# Altium integrated library ST Operational Amplifier.IntLib: 566 symbols (part 1 of 11)
Pins are listed as number, name and electrical type; pins without a type are passive.

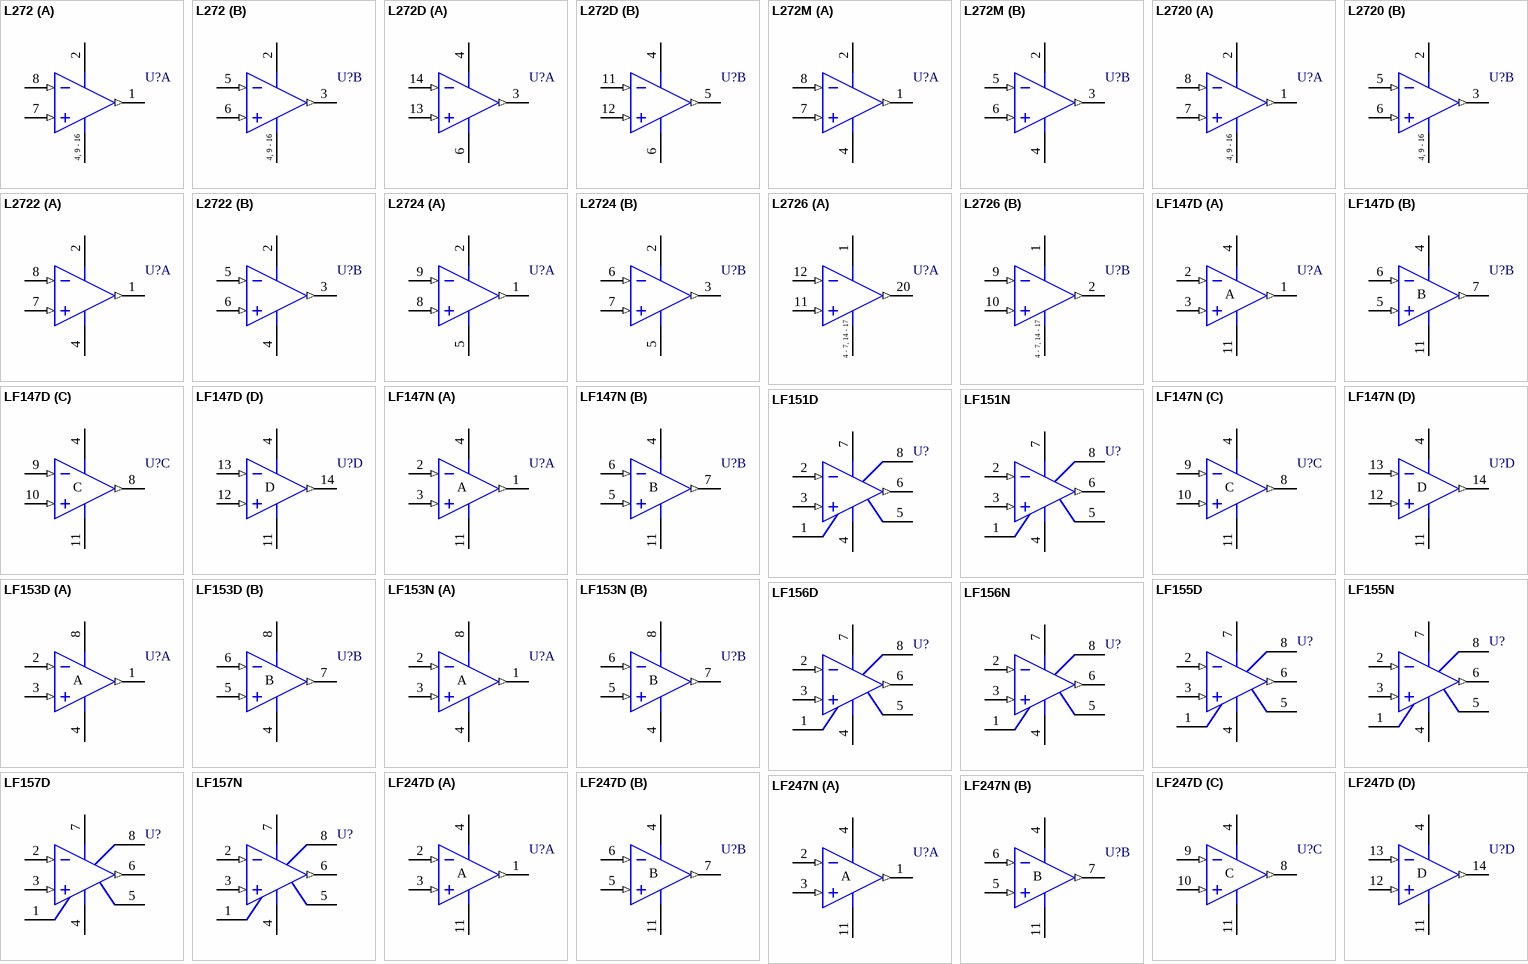
[diagram p0: symbols L272 to LF247N]

## L272
designator U?
Dual Power Operational Amplifier; Published: 24-Aug-2001; LatestRevisionDate: 06-Jun-2005; LatestRevisionNote: Stylized 3D Model Added.; DatasheetVersion: Jan-1995; PackageVersion: Apr-1996; PackageReference: DIP16; Publisher: Altium Limited; PackageDescription: DIP; 16 Leads; Row Spacing 7.62 mm; Pitch 2.54 mm; ComponentLink1Description: Manufacturer Link; ComponentLink1URL: http://www.st.com/; ComponentLink2Description: Datasheet; ComponentLink2URL: http://www.st.com/stonline/products/literature/ds/1320/l272.pdf
footprint DIP16 (DIP; 16 Leads; Row Spacing 7.62 mm; Pitch 2.54 mm)
3D model DIP16 (DIP; 16 Leads; Row Spacing 7.62 mm; Pitch 2.54 mm)
pins on every part: 2 V+ (power), 4 V- (power), 9 V- (power), 10 V- (power), 11 V- (power), 12 V- (power), 13 V- (power), 14 V- (power), 15 V- (power), 16 V- (power)
part A pins: 1 OUT (out), 7 IN+ (in), 8 IN- (in)
part B pins: 3 OUT (out), 5 IN- (in), 6 IN+ (in)
part A text: 4, 9 - 16
part B text: 4, 9 - 16

## L272D
designator U?
Dual Power Operational Amplifier; Note: Pins 1, 2, 7, 8, 9, 10, 15 and 16 are NC and not drawn.; Published: 24-Aug-2001; LatestRevisionDate: 13-Apr-2006; LatestRevisionNote: IPC-7351 Footprint Added.; DatasheetVersion: Jan-1995; PackageVersion: May-1998; PackageReference: SO16; Publisher: Altium Limited; PackageDescription: 16-Pin Small Outline Integrated Circuit 1.27 mm Pitch; Code_IPC: SOIC127P600-16; ComponentLink1Description: Manufacturer Link; ComponentLink1URL: http://www.st.com/; ComponentLink2Description: Datasheet; ComponentLink2URL: http://www.st.com/stonline/products/literature/ds/1320/l272.pdf
footprint SO16_N (SOIC, 16-Leads, Body 9.9x3.9mm, Pitch 1.27mm, IPC Medium Density)
footprint SO16_L (SOIC, 16-Leads, Body 9.9x3.9mm, Pitch 1.27mm, IPC High Density)
footprint SO16_M (SOIC, 16-Leads, Body 9.9x3.9mm, Pitch 1.27mm, IPC Low Density)
3D model SO16 (16-Pin Small Outline Integrated Circuit 1.27 mm Pitch)
pins on every part: 4 V+ (power), 6 V- (power)
part A pins: 3 OUT (out), 13 IN+ (in), 14 IN- (in)
part B pins: 5 OUT (out), 11 IN- (in), 12 IN+ (in)

## L272M
designator U?
Dual Power Operational Amplifier; Published: 24-Aug-2001; LatestRevisionDate: 06-Jun-2005; LatestRevisionNote: Stylized 3D Model Added.; DatasheetVersion: Jan-1995; PackageReference: DIP8; Publisher: Altium Limited; PackageDescription: DIP; 8 Leads; Row Spacing 7.62 mm; Pitch 2.54 mm; Code_JEDEC: MO-001-AN; ComponentLink1Description: Manufacturer Link; ComponentLink1URL: http://www.st.com/; ComponentLink2Description: Datasheet; ComponentLink2URL: http://www.st.com/stonline/products/literature/ds/1320/l272.pdf
footprint DIP8 (DIP; 8 Leads; Row Spacing 7.62 mm; Pitch 2.54 mm)
3D model DIP8 (DIP; 8 Leads; Row Spacing 7.62 mm; Pitch 2.54 mm)
pins on every part: 2 V+ (power), 4 V- (power)
part A pins: 1 OUT (out), 7 IN+ (in), 8 IN- (in)
part B pins: 3 OUT (out), 5 IN- (in), 6 IN+ (in)

## L2720
designator U?
Low-Drop Dual Power Operational Amplifier; Published: 24-Aug-2001; LatestRevisionDate: 06-Jun-2005; LatestRevisionNote: Stylized 3D Model Added.; DatasheetVersion: Nov-1996; PackageVersion: Apr-1996; PackageReference: DIP16; Publisher: Altium Limited; PackageDescription: DIP; 16 Leads; Row Spacing 7.62 mm; Pitch 2.54 mm; ComponentLink1Description: Manufacturer Link; ComponentLink1URL: http://www.st.com/; ComponentLink2Description: Datasheet; ComponentLink2URL: http://www.st.com/stonline/products/literature/ds/1321/l2720.pdf
footprint DIP16 (DIP; 16 Leads; Row Spacing 7.62 mm; Pitch 2.54 mm)
3D model DIP16 (DIP; 16 Leads; Row Spacing 7.62 mm; Pitch 2.54 mm)
pins on every part: 2 V+ (power), 4 V- (power), 9 V- (power), 10 V- (power), 11 V- (power), 12 V- (power), 13 V- (power), 14 V- (power), 15 V- (power), 16 V- (power)
part A pins: 1 OUT (out), 7 IN+ (in), 8 IN- (in)
part B pins: 3 OUT (out), 5 IN- (in), 6 IN+ (in)
part A text: 4, 9 - 16
part B text: 4, 9 - 16

## L2722
designator U?
Low-Drop Dual Power Operational Amplifier; Published: 24-Aug-2001; LatestRevisionDate: 17-Jul-2002; LatestRevisionNote: Re-released for DXP Platform.; DatasheetVersion: Nov-1996; PackageVersion: Sep-1988; PackageReference: MDIP8; Publisher: Altium Limited; PackageDescription: DIP; 8 Leads; Row Spacing 7.62 mm; Pitch 2.54 mm; ComponentLink1Description: Manufacturer Link; ComponentLink1URL: http://www.st.com/; ComponentLink2Description: Datasheet; ComponentLink2URL: http://www.st.com/stonline/products/literature/ds/1321/l2720.pdf
footprint MDIP8 (DIP; 8 Leads; Row Spacing 7.62 mm; Pitch 2.54 mm)
pins on every part: 2 V+ (power), 4 V- (power)
part A pins: 1 OUT (out), 7 IN+ (in), 8 IN- (in)
part B pins: 3 OUT (out), 5 IN- (in), 6 IN+ (in)

## L2724
designator U?
Low-Drop Dual Power Operational Amplifier; Note: Pin number 4 is NC and not drawn.; Published: 24-Aug-2001; LatestRevisionDate: 17-Jul-2002; LatestRevisionNote: Re-released for DXP Platform.; DatasheetVersion: Nov-1996; PackageVersion: Oct-1997; PackageReference: SIP9; Publisher: Altium Limited; PackageDescription: TO, Thru-Hole, Vertical, Heatsink Mounted; 9 In-Line Leads; Pitch 2.54 mm; ComponentLink1Description: Manufacturer Link; ComponentLink1URL: http://www.st.com/; ComponentLink2Description: Datasheet; ComponentLink2URL: http://www.st.com/stonline/products/literature/ds/1321/l2720.pdf
footprint SIP9 (TO, Thru-Hole, Vertical, Heatsink Mounted; 9 In-Line Leads; Pitch 2.54 mm)
pins on every part: 2 V+ (power), 5 V- (power)
part A pins: 1 OUT (out), 8 IN+ (in), 9 IN- (in)
part B pins: 3 OUT (out), 6 IN- (in), 7 IN+ (in)

## L2726
designator U?
Low-Drop Dual Power Operational Amplifier; Note: Pins 3, 8, 13, 18  and 19 are NC and are not drawn.; Published: 24-Aug-2001; LatestRevisionDate: 13-Apr-2006; LatestRevisionNote: IPC-7351 Footprint Added.; DatasheetVersion: Oct-1998; PackageVersion: Jul-2001; PackageReference: SO20; Publisher: Altium Limited; PackageDescription: 20-Pin Plastic Small Outline Integrated Circuit 1.27 mm Pitch; Code_JEDEC: MS-013-AC; Code_IPC: SOIC127P1030-20; ComponentLink1Description: Manufacturer Link; ComponentLink1URL: http://www.st.com/; ComponentLink2Description: Datasheet; ComponentLink2URL: http://www.st.com/stonline/products/literature/ds/1322/l2726.pdf
footprint SO20_N (SOIC, 20-Leads, Body 12.8x7.5mm, Pitch 1.27mm, IPC Medium Density)
footprint SO20_L (SOIC, 20-Leads, Body 12.8x7.5mm, Pitch 1.27mm, IPC High Density)
footprint SO20_M (SOIC, 20-Leads, Body 12.8x7.5mm, Pitch 1.27mm, IPC Low Density)
3D model SO20 (20-Pin Plastic Small Outline Integrated Circuit 1.27 mm Pitch)
pins on every part: 1 V+ (power), 4 V- (power), 5 V- (power), 6 V- (power), 7 V- (power), 14 V- (power), 15 V- (power), 16 V- (power), 17 V- (power)
part A pins: 11 IN+ (in), 12 IN- (in), 20 OUT (out)
part B pins: 2 OUT (out), 9 IN- (in), 10 IN+ (in)
part A text: 4 - 7, 14 - 17
part B text: 4 - 7, 14 - 17

## LF147D
designator U?
Wide-Bandwidth Quad J-FET Operational Amplifier; Published: 24-Aug-2001; LatestRevisionDate: 13-Apr-2006; LatestRevisionNote: IPC-7351 Footprint Added.; DatasheetVersion: Oct-1997; PackageVersion: Sep-1998; PackageReference: SO14; Publisher: Altium Limited; PackageDescription: 14-Pin Small Outline Integrated Circuit 1.27 mm Pitch; Code_IPC: SOIC127P600-14; ComponentLink1Description: Manufacturer Link; ComponentLink1URL: http://www.st.com/; ComponentLink2Description: Datasheet; ComponentLink2URL: http://www.st.com/stonline/products/literature/ds/2151/lf347.pdf
footprint SO14_N (SOIC, 14-Leads, Body 8.7x3.9mm, Pitch 1.27mm, IPC Medium Density)
footprint SO14_L (SOIC, 14-Leads, Body 8.7x3.9mm, Pitch 1.27mm, IPC High Density)
footprint SO14_M (SOIC, 14-Leads, Body 8.7x3.9mm, Pitch 1.27mm, IPC Low Density)
3D model SO14 (14-Pin Small Outline Integrated Circuit 1.27 mm Pitch)
pins on every part: 4 V+ (power), 11 V- (power)
part A pins: 1 OUT (out), 2 IN- (in), 3 IN+ (in)
part B pins: 5 IN+ (in), 6 IN- (in), 7 OUT (out)
part C pins: 8 OUT (out), 9 IN- (in), 10 IN+ (in)
part D pins: 12 IN+ (in), 13 IN- (in), 14 OUT (out)
part A text: A
part B text: B
part C text: C
part D text: D

## LF147N
designator U?
Wide-Bandwidth Quad J-FET Operational Amplifier; Published: 24-Aug-2001; LatestRevisionDate: 06-Jun-2005; LatestRevisionNote: Stylized 3D Model Added.; DatasheetVersion: Oct-1997; PackageVersion: Jan-1997; PackageReference: DIP14; Publisher: Altium Limited; PackageDescription: DIP; 14 Leads; Row Spacing 7.62 mm; Pitch 2.54 mm; ComponentLink1Description: Manufacturer Link; ComponentLink1URL: http://www.st.com/; ComponentLink2Description: Datasheet; ComponentLink2URL: http://www.st.com/stonline/products/literature/ds/2151/lf347.pdf
footprint DIP14 (DIP; 14 Leads; Row Spacing 7.62 mm; Pitch 2.54 mm)
3D model DIP14 (DIP; 14 Leads; Row Spacing 7.62 mm; Pitch 2.54 mm)
pins on every part: 4 V+ (power), 11 V- (power)
part A pins: 1 OUT (out), 2 IN- (in), 3 IN+ (in)
part B pins: 5 IN+ (in), 6 IN- (in), 7 OUT (out)
part C pins: 8 OUT (out), 9 IN- (in), 10 IN+ (in)
part D pins: 12 IN+ (in), 13 IN- (in), 14 OUT (out)
part A text: A
part B text: B
part C text: C
part D text: D

## LF151D
designator U?
Wide-Bandwidth Single J-FET Operational Amplifier; Published: 24-Aug-2001; LatestRevisionDate: 13-Apr-2006; LatestRevisionNote: IPC-7351 Footprint Added.; DatasheetVersion: Oct-1997; PackageVersion: Dec-2002; PackageReference: SO8; Publisher: Altium Limited; PackageDescription: 8-Pin Small Outline Integrated Circuit 1.27 mm Pitch; Code_JEDEC: MS-012-AA; Code_IPC: SOIC127P600-8; ComponentLink1Description: Manufacturer Link; ComponentLink1URL: http://www.st.com/; ComponentLink2Description: Datasheet; ComponentLink2URL: http://www.st.com/stonline/products/literature/ds/2152/lf351.pdf
footprint SO8_N (SOIC, 8-Leads, Body 4.9x3.9mm, Pitch 1.27mm, IPC Medium Density)
footprint SO8_L (SOIC, 8-Leads, Body 4.9x3.9mm, Pitch 1.27mm, IPC High Density)
footprint SO8_M (SOIC, 8-Leads, Body 4.9x3.9mm, Pitch 1.27mm, IPC Low Density)
3D model SO8 (8-Pin Small Outline Integrated Circuit 1.27 mm Pitch)
pins: 1 OS NULL, 2 IN- (in), 3 IN+ (in), 4 V- (power), 5 OS NULL, 6 OUT (out), 7 V+ (power), 8 NC

## LF151N
designator U?
Wide-Bandwidth Single J-FET Operational Amplifier; Published: 24-Aug-2001; LatestRevisionDate: 06-Jun-2005; LatestRevisionNote: Stylized 3D Model Added.; DatasheetVersion: Oct-1997; PackageReference: DIP8; Publisher: Altium Limited; PackageDescription: DIP; 8 Leads; Row Spacing 7.62 mm; Pitch 2.54 mm; Code_JEDEC: MO-001-AN; ComponentLink1Description: Manufacturer Link; ComponentLink1URL: http://www.st.com/; ComponentLink2Description: Datasheet; ComponentLink2URL: http://www.st.com/stonline/products/literature/ds/2152/lf351.pdf
footprint DIP8 (DIP; 8 Leads; Row Spacing 7.62 mm; Pitch 2.54 mm)
3D model DIP8 (DIP; 8 Leads; Row Spacing 7.62 mm; Pitch 2.54 mm)
pins: 1 OS NULL, 2 IN- (in), 3 IN+ (in), 4 V- (power), 5 OS NULL, 6 OUT (out), 7 V+ (power), 8 NC

## LF153D
designator U?
Wide-Bandwidth Dual J-FET Operational Amplifier; Published: 24-Aug-2001; LatestRevisionDate: 13-Apr-2006; LatestRevisionNote: IPC-7351 Footprint Added.; DatasheetVersion: Jun-1998; PackageVersion: Dec-2002; PackageReference: SO8; Publisher: Altium Limited; PackageDescription: 8-Pin Small Outline Integrated Circuit 1.27 mm Pitch; Code_JEDEC: MS-012-AA; Code_IPC: SOIC127P600-8; ComponentLink1Description: Manufacturer Link; ComponentLink1URL: http://www.st.com/; ComponentLink2Description: Datasheet; ComponentLink2URL: http://www.st.com/stonline/products/literature/ds/2153/lf353.pdf
footprint SO8_N (SOIC, 8-Leads, Body 4.9x3.9mm, Pitch 1.27mm, IPC Medium Density)
footprint SO8_L (SOIC, 8-Leads, Body 4.9x3.9mm, Pitch 1.27mm, IPC High Density)
footprint SO8_M (SOIC, 8-Leads, Body 4.9x3.9mm, Pitch 1.27mm, IPC Low Density)
3D model SO8 (8-Pin Small Outline Integrated Circuit 1.27 mm Pitch)
pins on every part: 4 V- (power), 8 V+ (power)
part A pins: 1 OUT (out), 2 IN- (in), 3 IN+ (in)
part B pins: 5 IN+ (in), 6 IN- (in), 7 OUT (out)
part A text: A
part B text: B

## LF153N
designator U?
Wide-Bandwidth Dual J-FET Operational Amplifier; Published: 24-Aug-2001; LatestRevisionDate: 06-Jun-2005; LatestRevisionNote: Stylized 3D Model Added.; DatasheetVersion: Jun-1998; PackageReference: DIP8; Publisher: Altium Limited; PackageDescription: DIP; 8 Leads; Row Spacing 7.62 mm; Pitch 2.54 mm; Code_JEDEC: MO-001-AN; ComponentLink1Description: Manufacturer Link; ComponentLink1URL: http://www.st.com/; ComponentLink2Description: Datasheet; ComponentLink2URL: http://www.st.com/stonline/products/literature/ds/2153/lf353.pdf
footprint DIP8 (DIP; 8 Leads; Row Spacing 7.62 mm; Pitch 2.54 mm)
3D model DIP8 (DIP; 8 Leads; Row Spacing 7.62 mm; Pitch 2.54 mm)
pins on every part: 4 V- (power), 8 V+ (power)
part A pins: 1 OUT (out), 2 IN- (in), 3 IN+ (in)
part B pins: 5 IN+ (in), 6 IN- (in), 7 OUT (out)
part A text: A
part B text: B

## LF155D
designator U?
Wide-Bandwidth Single J-FET Operational Amplifier; Published: 24-Aug-2001; LatestRevisionDate: 13-Apr-2006; LatestRevisionNote: IPC-7351 Footprint Added.; DatasheetVersion: Jul-1998; PackageVersion: Jul-1999; PackageReference: SOP8; Publisher: Altium Limited; PackageDescription: 8-Pin Small Outline Integrated Circuit 1.27 mm Pitch; ComponentLink1Description: Manufacturer Link; ComponentLink1URL: http://www.st.com/
footprint SOP8_N (SOIC, 8-Leads, Body 4.9x3.9mm, Pitch 1.27mm, IPC Medium Density)
footprint SOP8_L (SOIC, 8-Leads, Body 4.9x3.9mm, Pitch 1.27mm, IPC High Density)
footprint SOP8_M (SOIC, 8-Leads, Body 4.9x3.9mm, Pitch 1.27mm, IPC Low Density)
3D model SOP8 (8-Pin Small Outline Integrated Circuit 1.27 mm Pitch)
simulation model LF155 (SUBCKT)
pins: 1 OS NULL, 2 IN- (in), 3 IN+ (in), 4 V- (power), 5 OS NULL, 6 OUT (out), 7 V+ (power), 8 NC

## LF155N
designator U?
Wide-Bandwidth Single J-FET Operational Amplifier; Published: 24-Aug-2001; LatestRevisionDate: 06-Jun-2005; LatestRevisionNote: Stylized 3D Model Added.; DatasheetVersion: Jul-1998; PackageReference: DIP8; Publisher: Altium Limited; PackageDescription: DIP; 8 Leads; Row Spacing 7.62 mm; Pitch 2.54 mm; Code_JEDEC: MO-001-AN; ComponentLink1Description: Manufacturer Link; ComponentLink1URL: http://www.st.com/
footprint DIP8 (DIP; 8 Leads; Row Spacing 7.62 mm; Pitch 2.54 mm)
3D model DIP8 (DIP; 8 Leads; Row Spacing 7.62 mm; Pitch 2.54 mm)
simulation model LF155 (SUBCKT)
pins: 1 OS NULL, 2 IN- (in), 3 IN+ (in), 4 V- (power), 5 OS NULL, 6 OUT (out), 7 V+ (power), 8 NC

## LF156D
designator U?
Wide-Bandwidth Single J-FET Operational Amplifier; Published: 24-Aug-2001; LatestRevisionDate: 13-Apr-2006; LatestRevisionNote: IPC-7351 Footprint Added.; DatasheetVersion: Jul-1998; PackageVersion: Dec-2002; PackageReference: SO8; Publisher: Altium Limited; PackageDescription: 8-Pin Small Outline Integrated Circuit 1.27 mm Pitch; Code_JEDEC: MS-012-AA; Code_IPC: SOIC127P600-8; ComponentLink1Description: Manufacturer Link; ComponentLink1URL: http://www.st.com/
footprint SO8_N (SOIC, 8-Leads, Body 4.9x3.9mm, Pitch 1.27mm, IPC Medium Density)
footprint SO8_L (SOIC, 8-Leads, Body 4.9x3.9mm, Pitch 1.27mm, IPC High Density)
footprint SO8_M (SOIC, 8-Leads, Body 4.9x3.9mm, Pitch 1.27mm, IPC Low Density)
3D model SO8 (8-Pin Small Outline Integrated Circuit 1.27 mm Pitch)
simulation model LF156 (SUBCKT)
pins: 1 OS NULL, 2 IN- (in), 3 IN+ (in), 4 V- (power), 5 OS NULL, 6 OUT (out), 7 V+ (power), 8 NC

## LF156N
designator U?
Wide-Bandwidth Single J-FET Operational Amplifier; Published: 24-Aug-2001; LatestRevisionDate: 06-Jun-2005; LatestRevisionNote: Stylized 3D Model Added.; DatasheetVersion: Jul-1998; PackageReference: DIP8; Publisher: Altium Limited; PackageDescription: DIP; 8 Leads; Row Spacing 7.62 mm; Pitch 2.54 mm; Code_JEDEC: MO-001-AN; ComponentLink1Description: Manufacturer Link; ComponentLink1URL: http://www.st.com/
footprint DIP8 (DIP; 8 Leads; Row Spacing 7.62 mm; Pitch 2.54 mm)
3D model DIP8 (DIP; 8 Leads; Row Spacing 7.62 mm; Pitch 2.54 mm)
simulation model LF156 (SUBCKT)
pins: 1 OS NULL, 2 IN- (in), 3 IN+ (in), 4 V- (power), 5 OS NULL, 6 OUT (out), 7 V+ (power), 8 NC

## LF157D
designator U?
Wide-Bandwidth Single J-FET Operational Amplifier; Published: 24-Aug-2001; LatestRevisionDate: 13-Apr-2006; LatestRevisionNote: IPC-7351 Footprint Added.; DatasheetVersion: Jul-1998; PackageVersion: Dec-2002; PackageReference: SO8; Publisher: Altium Limited; PackageDescription: 8-Pin Small Outline Integrated Circuit 1.27 mm Pitch; Code_JEDEC: MS-012-AA; Code_IPC: SOIC127P600-8; ComponentLink1Description: Manufacturer Link; ComponentLink1URL: http://www.st.com/
footprint SO8_N (SOIC, 8-Leads, Body 4.9x3.9mm, Pitch 1.27mm, IPC Medium Density)
footprint SO8_L (SOIC, 8-Leads, Body 4.9x3.9mm, Pitch 1.27mm, IPC High Density)
footprint SO8_M (SOIC, 8-Leads, Body 4.9x3.9mm, Pitch 1.27mm, IPC Low Density)
3D model SO8 (8-Pin Small Outline Integrated Circuit 1.27 mm Pitch)
pins: 1 OS NULL, 2 IN- (in), 3 IN+ (in), 4 V- (power), 5 OS NULL, 6 OUT (out), 7 V+ (power), 8 NC

## LF157N
designator U?
Wide-Bandwidth Single J-FET Operational Amplifier; Published: 24-Aug-2001; LatestRevisionDate: 06-Jun-2005; LatestRevisionNote: Stylized 3D Model Added.; DatasheetVersion: Jul-1998; PackageReference: DIP8; Publisher: Altium Limited; PackageDescription: DIP; 8 Leads; Row Spacing 7.62 mm; Pitch 2.54 mm; Code_JEDEC: MO-001-AN; ComponentLink1Description: Manufacturer Link; ComponentLink1URL: http://www.st.com/
footprint DIP8 (DIP; 8 Leads; Row Spacing 7.62 mm; Pitch 2.54 mm)
3D model DIP8 (DIP; 8 Leads; Row Spacing 7.62 mm; Pitch 2.54 mm)
pins: 1 OS NULL, 2 IN- (in), 3 IN+ (in), 4 V- (power), 5 OS NULL, 6 OUT (out), 7 V+ (power), 8 NC

## LF247D
designator U?
Wide-Bandwidth Quad J-FET Operational Amplifier; Published: 24-Aug-2001; LatestRevisionDate: 13-Apr-2006; LatestRevisionNote: IPC-7351 Footprint Added.; DatasheetVersion: Oct-1997; PackageVersion: Sep-1998; PackageReference: SO14; Publisher: Altium Limited; PackageDescription: 14-Pin Small Outline Integrated Circuit 1.27 mm Pitch; Code_IPC: SOIC127P600-14; ComponentLink1Description: Manufacturer Link; ComponentLink1URL: http://www.st.com/; ComponentLink2Description: Datasheet; ComponentLink2URL: http://www.st.com/stonline/products/literature/ds/2151/lf347.pdf
footprint SO14_N (SOIC, 14-Leads, Body 8.7x3.9mm, Pitch 1.27mm, IPC Medium Density)
footprint SO14_L (SOIC, 14-Leads, Body 8.7x3.9mm, Pitch 1.27mm, IPC High Density)
footprint SO14_M (SOIC, 14-Leads, Body 8.7x3.9mm, Pitch 1.27mm, IPC Low Density)
3D model SO14 (14-Pin Small Outline Integrated Circuit 1.27 mm Pitch)
pins on every part: 4 V+ (power), 11 V- (power)
part A pins: 1 OUT (out), 2 IN- (in), 3 IN+ (in)
part B pins: 5 IN+ (in), 6 IN- (in), 7 OUT (out)
part C pins: 8 OUT (out), 9 IN- (in), 10 IN+ (in)
part D pins: 12 IN+ (in), 13 IN- (in), 14 OUT (out)
part A text: A
part B text: B
part C text: C
part D text: D

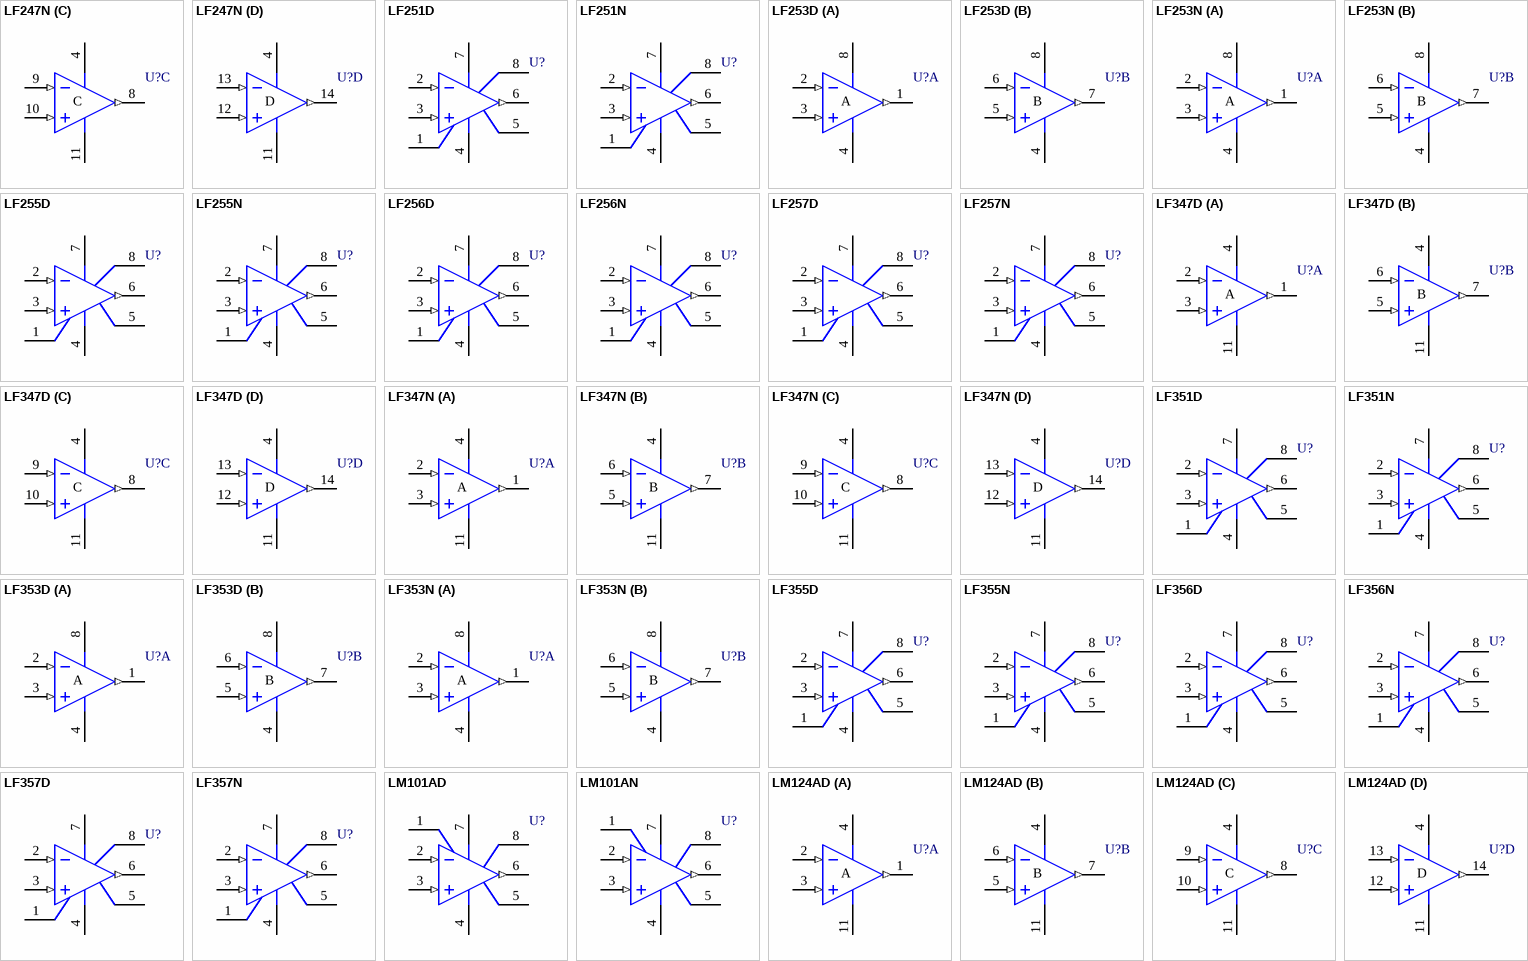
[diagram p1: symbols LF247N to LM124AD]

## LF247N
designator U?
Wide-Bandwidth Quad J-FET Operational Amplifier; Published: 24-Aug-2001; LatestRevisionDate: 06-Jun-2005; LatestRevisionNote: Stylized 3D Model Added.; DatasheetVersion: Oct-1997; PackageVersion: Jan-1997; PackageReference: DIP14; Publisher: Altium Limited; PackageDescription: DIP; 14 Leads; Row Spacing 7.62 mm; Pitch 2.54 mm; ComponentLink1Description: Manufacturer Link; ComponentLink1URL: http://www.st.com/; ComponentLink2Description: Datasheet; ComponentLink2URL: http://www.st.com/stonline/products/literature/ds/2151/lf347.pdf
footprint DIP14 (DIP; 14 Leads; Row Spacing 7.62 mm; Pitch 2.54 mm)
3D model DIP14 (DIP; 14 Leads; Row Spacing 7.62 mm; Pitch 2.54 mm)
pins on every part: 4 V+ (power), 11 V- (power)
part A pins: 1 OUT (out), 2 IN- (in), 3 IN+ (in)
part B pins: 5 IN+ (in), 6 IN- (in), 7 OUT (out)
part C pins: 8 OUT (out), 9 IN- (in), 10 IN+ (in)
part D pins: 12 IN+ (in), 13 IN- (in), 14 OUT (out)
part A text: A
part B text: B
part C text: C
part D text: D

## LF251D
designator U?
Wide-Bandwidth Single J-FET Operational Amplifier; Published: 24-Aug-2001; LatestRevisionDate: 13-Apr-2006; LatestRevisionNote: IPC-7351 Footprint Added.; DatasheetVersion: Oct-1997; PackageVersion: Dec-2002; PackageReference: SO8; Publisher: Altium Limited; PackageDescription: 8-Pin Small Outline Integrated Circuit 1.27 mm Pitch; Code_JEDEC: MS-012-AA; Code_IPC: SOIC127P600-8; ComponentLink1Description: Manufacturer Link; ComponentLink1URL: http://www.st.com/; ComponentLink2Description: Datasheet; ComponentLink2URL: http://www.st.com/stonline/products/literature/ds/2152/lf351.pdf
footprint SO8_N (SOIC, 8-Leads, Body 4.9x3.9mm, Pitch 1.27mm, IPC Medium Density)
footprint SO8_L (SOIC, 8-Leads, Body 4.9x3.9mm, Pitch 1.27mm, IPC High Density)
footprint SO8_M (SOIC, 8-Leads, Body 4.9x3.9mm, Pitch 1.27mm, IPC Low Density)
3D model SO8 (8-Pin Small Outline Integrated Circuit 1.27 mm Pitch)
pins: 1 OS NULL, 2 IN- (in), 3 IN+ (in), 4 V- (power), 5 OS NULL, 6 OUT (out), 7 V+ (power), 8 NC

## LF251N
designator U?
Wide-Bandwidth Single J-FET Operational Amplifier; Published: 24-Aug-2001; LatestRevisionDate: 06-Jun-2005; LatestRevisionNote: Stylized 3D Model Added.; DatasheetVersion: Oct-1997; PackageReference: DIP8; Publisher: Altium Limited; PackageDescription: DIP; 8 Leads; Row Spacing 7.62 mm; Pitch 2.54 mm; Code_JEDEC: MO-001-AN; ComponentLink1Description: Manufacturer Link; ComponentLink1URL: http://www.st.com/; ComponentLink2Description: Datasheet; ComponentLink2URL: http://www.st.com/stonline/products/literature/ds/2152/lf351.pdf
footprint DIP8 (DIP; 8 Leads; Row Spacing 7.62 mm; Pitch 2.54 mm)
3D model DIP8 (DIP; 8 Leads; Row Spacing 7.62 mm; Pitch 2.54 mm)
pins: 1 OS NULL, 2 IN- (in), 3 IN+ (in), 4 V- (power), 5 OS NULL, 6 OUT (out), 7 V+ (power), 8 NC

## LF253D
designator U?
Wide-Bandwidth Dual J-FET Operational Amplifier; Published: 24-Aug-2001; LatestRevisionDate: 13-Apr-2006; LatestRevisionNote: IPC-7351 Footprint Added.; DatasheetVersion: Jun-1998; PackageVersion: Dec-2002; PackageReference: SO8; Publisher: Altium Limited; PackageDescription: 8-Pin Small Outline Integrated Circuit 1.27 mm Pitch; Code_JEDEC: MS-012-AA; Code_IPC: SOIC127P600-8; ComponentLink1Description: Manufacturer Link; ComponentLink1URL: http://www.st.com/; ComponentLink2Description: Datasheet; ComponentLink2URL: http://www.st.com/stonline/products/literature/ds/2153/lf353.pdf
footprint SO8_N (SOIC, 8-Leads, Body 4.9x3.9mm, Pitch 1.27mm, IPC Medium Density)
footprint SO8_L (SOIC, 8-Leads, Body 4.9x3.9mm, Pitch 1.27mm, IPC High Density)
footprint SO8_M (SOIC, 8-Leads, Body 4.9x3.9mm, Pitch 1.27mm, IPC Low Density)
3D model SO8 (8-Pin Small Outline Integrated Circuit 1.27 mm Pitch)
pins on every part: 4 V- (power), 8 V+ (power)
part A pins: 1 OUT (out), 2 IN- (in), 3 IN+ (in)
part B pins: 5 IN+ (in), 6 IN- (in), 7 OUT (out)
part A text: A
part B text: B

## LF253N
designator U?
Wide-Bandwidth Dual J-FET Operational Amplifier; Published: 24-Aug-2001; LatestRevisionDate: 06-Jun-2005; LatestRevisionNote: Stylized 3D Model Added.; DatasheetVersion: Jun-1998; PackageReference: DIP8; Publisher: Altium Limited; PackageDescription: DIP; 8 Leads; Row Spacing 7.62 mm; Pitch 2.54 mm; Code_JEDEC: MO-001-AN; ComponentLink1Description: Manufacturer Link; ComponentLink1URL: http://www.st.com/; ComponentLink2Description: Datasheet; ComponentLink2URL: http://www.st.com/stonline/products/literature/ds/2153/lf353.pdf
footprint DIP8 (DIP; 8 Leads; Row Spacing 7.62 mm; Pitch 2.54 mm)
3D model DIP8 (DIP; 8 Leads; Row Spacing 7.62 mm; Pitch 2.54 mm)
pins on every part: 4 V- (power), 8 V+ (power)
part A pins: 1 OUT (out), 2 IN- (in), 3 IN+ (in)
part B pins: 5 IN+ (in), 6 IN- (in), 7 OUT (out)
part A text: A
part B text: B

## LF255D
designator U?
Wide-Bandwidth Single J-FET Operational Amplifier; Published: 24-Aug-2001; LatestRevisionDate: 13-Apr-2006; LatestRevisionNote: IPC-7351 Footprint Added.; DatasheetVersion: Jul-1998; PackageVersion: Dec-2002; PackageReference: SO8; Publisher: Altium Limited; PackageDescription: 8-Pin Small Outline Integrated Circuit 1.27 mm Pitch; Code_JEDEC: MS-012-AA; Code_IPC: SOIC127P600-8; ComponentLink1Description: Manufacturer Link; ComponentLink1URL: http://www.st.com/
footprint SO8_N (SOIC, 8-Leads, Body 4.9x3.9mm, Pitch 1.27mm, IPC Medium Density)
footprint SO8_L (SOIC, 8-Leads, Body 4.9x3.9mm, Pitch 1.27mm, IPC High Density)
footprint SO8_M (SOIC, 8-Leads, Body 4.9x3.9mm, Pitch 1.27mm, IPC Low Density)
3D model SO8 (8-Pin Small Outline Integrated Circuit 1.27 mm Pitch)
pins: 1 OS NULL, 2 IN- (in), 3 IN+ (in), 4 V- (power), 5 OS NULL, 6 OUT (out), 7 V+ (power), 8 NC

## LF255N
designator U?
Wide-Bandwidth Single J-FET Operational Amplifier; Published: 24-Aug-2001; LatestRevisionDate: 06-Jun-2005; LatestRevisionNote: Stylized 3D Model Added.; DatasheetVersion: Jul-1998; PackageReference: DIP8; Publisher: Altium Limited; PackageDescription: DIP; 8 Leads; Row Spacing 7.62 mm; Pitch 2.54 mm; Code_JEDEC: MO-001-AN; ComponentLink1Description: Manufacturer Link; ComponentLink1URL: http://www.st.com/
footprint DIP8 (DIP; 8 Leads; Row Spacing 7.62 mm; Pitch 2.54 mm)
3D model DIP8 (DIP; 8 Leads; Row Spacing 7.62 mm; Pitch 2.54 mm)
pins: 1 OS NULL, 2 IN- (in), 3 IN+ (in), 4 V- (power), 5 OS NULL, 6 OUT (out), 7 V+ (power), 8 NC

## LF256D
designator U?
Wide-Bandwidth Single J-FET Operational Amplifier; Published: 24-Aug-2001; LatestRevisionDate: 13-Apr-2006; LatestRevisionNote: IPC-7351 Footprint Added.; DatasheetVersion: Jul-1998; PackageVersion: Dec-2002; PackageReference: SO8; Publisher: Altium Limited; PackageDescription: 8-Pin Small Outline Integrated Circuit 1.27 mm Pitch; Code_JEDEC: MS-012-AA; Code_IPC: SOIC127P600-8; ComponentLink1Description: Manufacturer Link; ComponentLink1URL: http://www.st.com/
footprint SO8_N (SOIC, 8-Leads, Body 4.9x3.9mm, Pitch 1.27mm, IPC Medium Density)
footprint SO8_L (SOIC, 8-Leads, Body 4.9x3.9mm, Pitch 1.27mm, IPC High Density)
footprint SO8_M (SOIC, 8-Leads, Body 4.9x3.9mm, Pitch 1.27mm, IPC Low Density)
3D model SO8 (8-Pin Small Outline Integrated Circuit 1.27 mm Pitch)
pins: 1 OS NULL, 2 IN- (in), 3 IN+ (in), 4 V- (power), 5 OS NULL, 6 OUT (out), 7 V+ (power), 8 NC

## LF256N
designator U?
Wide-Bandwidth Single J-FET Operational Amplifier; Published: 24-Aug-2001; LatestRevisionDate: 06-Jun-2005; LatestRevisionNote: Stylized 3D Model Added.; DatasheetVersion: Jul-1998; PackageReference: DIP8; Publisher: Altium Limited; PackageDescription: DIP; 8 Leads; Row Spacing 7.62 mm; Pitch 2.54 mm; Code_JEDEC: MO-001-AN; ComponentLink1Description: Manufacturer Link; ComponentLink1URL: http://www.st.com/
footprint DIP8 (DIP; 8 Leads; Row Spacing 7.62 mm; Pitch 2.54 mm)
3D model DIP8 (DIP; 8 Leads; Row Spacing 7.62 mm; Pitch 2.54 mm)
pins: 1 OS NULL, 2 IN- (in), 3 IN+ (in), 4 V- (power), 5 OS NULL, 6 OUT (out), 7 V+ (power), 8 NC

## LF257D
designator U?
Wide-Bandwidth Single J-FET Operational Amplifier; Published: 24-Aug-2001; LatestRevisionDate: 13-Apr-2006; LatestRevisionNote: IPC-7351 Footprint Added.; DatasheetVersion: Jul-1998; PackageVersion: Dec-2002; PackageReference: SO8; Publisher: Altium Limited; PackageDescription: 8-Pin Small Outline Integrated Circuit 1.27 mm Pitch; Code_JEDEC: MS-012-AA; Code_IPC: SOIC127P600-8; ComponentLink1Description: Manufacturer Link; ComponentLink1URL: http://www.st.com/
footprint SO8_N (SOIC, 8-Leads, Body 4.9x3.9mm, Pitch 1.27mm, IPC Medium Density)
footprint SO8_L (SOIC, 8-Leads, Body 4.9x3.9mm, Pitch 1.27mm, IPC High Density)
footprint SO8_M (SOIC, 8-Leads, Body 4.9x3.9mm, Pitch 1.27mm, IPC Low Density)
3D model SO8 (8-Pin Small Outline Integrated Circuit 1.27 mm Pitch)
pins: 1 OS NULL, 2 IN- (in), 3 IN+ (in), 4 V- (power), 5 OS NULL, 6 OUT (out), 7 V+ (power), 8 NC

## LF257N
designator U?
Wide-Bandwidth Single J-FET Operational Amplifier; Published: 24-Aug-2001; LatestRevisionDate: 06-Jun-2005; LatestRevisionNote: Stylized 3D Model Added.; DatasheetVersion: Jul-1998; PackageReference: DIP8; Publisher: Altium Limited; PackageDescription: DIP; 8 Leads; Row Spacing 7.62 mm; Pitch 2.54 mm; Code_JEDEC: MO-001-AN; ComponentLink1Description: Manufacturer Link; ComponentLink1URL: http://www.st.com/
footprint DIP8 (DIP; 8 Leads; Row Spacing 7.62 mm; Pitch 2.54 mm)
3D model DIP8 (DIP; 8 Leads; Row Spacing 7.62 mm; Pitch 2.54 mm)
pins: 1 OS NULL, 2 IN- (in), 3 IN+ (in), 4 V- (power), 5 OS NULL, 6 OUT (out), 7 V+ (power), 8 NC

## LF347D
designator U?
Wide-Bandwidth Quad J-FET Operational Amplifier; Published: 24-Aug-2001; LatestRevisionDate: 13-Apr-2006; LatestRevisionNote: IPC-7351 Footprint Added.; DatasheetVersion: Oct-1997; PackageVersion: Sep-1998; PackageReference: SO14; Publisher: Altium Limited; PackageDescription: 14-Pin Small Outline Integrated Circuit 1.27 mm Pitch; Code_IPC: SOIC127P600-14; ComponentLink1Description: Manufacturer Link; ComponentLink1URL: http://www.st.com/; ComponentLink2Description: Datasheet; ComponentLink2URL: http://www.st.com/stonline/products/literature/ds/2151/lf347.pdf
footprint SO14_N (SOIC, 14-Leads, Body 8.7x3.9mm, Pitch 1.27mm, IPC Medium Density)
footprint SO14_L (SOIC, 14-Leads, Body 8.7x3.9mm, Pitch 1.27mm, IPC High Density)
footprint SO14_M (SOIC, 14-Leads, Body 8.7x3.9mm, Pitch 1.27mm, IPC Low Density)
3D model SO14 (14-Pin Small Outline Integrated Circuit 1.27 mm Pitch)
simulation model LF347 (SUBCKT)
pins on every part: 4 V+ (power), 11 V- (power)
part A pins: 1 OUT (out), 2 IN- (in), 3 IN+ (in)
part B pins: 5 IN+ (in), 6 IN- (in), 7 OUT (out)
part C pins: 8 OUT (out), 9 IN- (in), 10 IN+ (in)
part D pins: 12 IN+ (in), 13 IN- (in), 14 OUT (out)
part A text: A
part B text: B
part C text: C
part D text: D

## LF347N
designator U?
Wide-Bandwidth Quad J-FET Operational Amplifier; Published: 24-Aug-2001; LatestRevisionDate: 06-Jun-2005; LatestRevisionNote: Stylized 3D Model Added.; DatasheetVersion: Oct-1997; PackageVersion: Jan-1997; PackageReference: DIP14; Publisher: Altium Limited; PackageDescription: DIP; 14 Leads; Row Spacing 7.62 mm; Pitch 2.54 mm; ComponentLink1Description: Manufacturer Link; ComponentLink1URL: http://www.st.com/; ComponentLink2Description: Datasheet; ComponentLink2URL: http://www.st.com/stonline/products/literature/ds/2151/lf347.pdf
footprint DIP14 (DIP; 14 Leads; Row Spacing 7.62 mm; Pitch 2.54 mm)
3D model DIP14 (DIP; 14 Leads; Row Spacing 7.62 mm; Pitch 2.54 mm)
simulation model LF347 (SUBCKT)
pins on every part: 4 V+ (power), 11 V- (power)
part A pins: 1 OUT (out), 2 IN- (in), 3 IN+ (in)
part B pins: 5 IN+ (in), 6 IN- (in), 7 OUT (out)
part C pins: 8 OUT (out), 9 IN- (in), 10 IN+ (in)
part D pins: 12 IN+ (in), 13 IN- (in), 14 OUT (out)
part A text: A
part B text: B
part C text: C
part D text: D

## LF351D
designator U?
Wide-Bandwidth Single J-FET Operational Amplifier; Published: 24-Aug-2001; LatestRevisionDate: 13-Apr-2006; LatestRevisionNote: IPC-7351 Footprint Added.; DatasheetVersion: Oct-1997; PackageVersion: Dec-2002; PackageReference: SO8; Publisher: Altium Limited; PackageDescription: 8-Pin Small Outline Integrated Circuit 1.27 mm Pitch; Code_JEDEC: MS-012-AA; Code_IPC: SOIC127P600-8; ComponentLink1Description: Manufacturer Link; ComponentLink1URL: http://www.st.com/; ComponentLink2Description: Datasheet; ComponentLink2URL: http://www.st.com/stonline/products/literature/ds/2152/lf351.pdf
footprint SO8_N (SOIC, 8-Leads, Body 4.9x3.9mm, Pitch 1.27mm, IPC Medium Density)
footprint SO8_L (SOIC, 8-Leads, Body 4.9x3.9mm, Pitch 1.27mm, IPC High Density)
footprint SO8_M (SOIC, 8-Leads, Body 4.9x3.9mm, Pitch 1.27mm, IPC Low Density)
3D model SO8 (8-Pin Small Outline Integrated Circuit 1.27 mm Pitch)
simulation model LF351 (SUBCKT)
pins: 1 OS NULL, 2 IN- (in), 3 IN+ (in), 4 V- (power), 5 OS NULL, 6 OUT (out), 7 V+ (power), 8 NC

## LF351N
designator U?
Wide-Bandwidth Single J-FET Operational Amplifier; Published: 24-Aug-2001; LatestRevisionDate: 06-Jun-2005; LatestRevisionNote: Stylized 3D Model Added.; DatasheetVersion: Oct-1997; PackageReference: DIP8; Publisher: Altium Limited; PackageDescription: DIP; 8 Leads; Row Spacing 7.62 mm; Pitch 2.54 mm; Code_JEDEC: MO-001-AN; ComponentLink1Description: Manufacturer Link; ComponentLink1URL: http://www.st.com/; ComponentLink2Description: Datasheet; ComponentLink2URL: http://www.st.com/stonline/products/literature/ds/2152/lf351.pdf
footprint DIP8 (DIP; 8 Leads; Row Spacing 7.62 mm; Pitch 2.54 mm)
3D model DIP8 (DIP; 8 Leads; Row Spacing 7.62 mm; Pitch 2.54 mm)
simulation model LF351 (SUBCKT)
pins: 1 OS NULL, 2 IN- (in), 3 IN+ (in), 4 V- (power), 5 OS NULL, 6 OUT (out), 7 V+ (power), 8 NC

## LF353D
designator U?
Wide-Bandwidth Dual J-FET Operational Amplifier; Published: 24-Aug-2001; LatestRevisionDate: 13-Apr-2006; LatestRevisionNote: IPC-7351 Footprint Added.; DatasheetVersion: Jun-1998; PackageVersion: Dec-2002; PackageReference: SO8; Publisher: Altium Limited; PackageDescription: 8-Pin Small Outline Integrated Circuit 1.27 mm Pitch; Code_JEDEC: MS-012-AA; Code_IPC: SOIC127P600-8; ComponentLink1Description: Manufacturer Link; ComponentLink1URL: http://www.st.com/; ComponentLink2Description: Datasheet; ComponentLink2URL: http://www.st.com/stonline/products/literature/ds/2153/lf353.pdf
footprint SO8_N (SOIC, 8-Leads, Body 4.9x3.9mm, Pitch 1.27mm, IPC Medium Density)
footprint SO8_L (SOIC, 8-Leads, Body 4.9x3.9mm, Pitch 1.27mm, IPC High Density)
footprint SO8_M (SOIC, 8-Leads, Body 4.9x3.9mm, Pitch 1.27mm, IPC Low Density)
3D model SO8 (8-Pin Small Outline Integrated Circuit 1.27 mm Pitch)
simulation model LF353D (SUBCKT)
pins on every part: 4 V- (power), 8 V+ (power)
part A pins: 1 OUT (out), 2 IN- (in), 3 IN+ (in)
part B pins: 5 IN+ (in), 6 IN- (in), 7 OUT (out)
part A text: A
part B text: B

## LF353N
designator U?
Wide-Bandwidth Dual J-FET Operational Amplifier; Published: 24-Aug-2001; LatestRevisionDate: 06-Jun-2005; LatestRevisionNote: Stylized 3D Model Added.; DatasheetVersion: Jun-1998; PackageReference: DIP8; Publisher: Altium Limited; PackageDescription: DIP; 8 Leads; Row Spacing 7.62 mm; Pitch 2.54 mm; Code_JEDEC: MO-001-AN; ComponentLink1Description: Manufacturer Link; ComponentLink1URL: http://www.st.com/; ComponentLink2Description: Datasheet; ComponentLink2URL: http://www.st.com/stonline/products/literature/ds/2153/lf353.pdf
footprint DIP8 (DIP; 8 Leads; Row Spacing 7.62 mm; Pitch 2.54 mm)
3D model DIP8 (DIP; 8 Leads; Row Spacing 7.62 mm; Pitch 2.54 mm)
simulation model LF353N (SUBCKT)
pins on every part: 4 V- (power), 8 V+ (power)
part A pins: 1 OUT (out), 2 IN- (in), 3 IN+ (in)
part B pins: 5 IN+ (in), 6 IN- (in), 7 OUT (out)
part A text: A
part B text: B

## LF355D
designator U?
Wide-Bandwidth Single J-FET Operational Amplifier; Published: 24-Aug-2001; LatestRevisionDate: 13-Apr-2006; LatestRevisionNote: IPC-7351 Footprint Added.; DatasheetVersion: Jul-1998; PackageVersion: Dec-2002; PackageReference: SO8; Publisher: Altium Limited; PackageDescription: 8-Pin Small Outline Integrated Circuit 1.27 mm Pitch; Code_JEDEC: MS-012-AA; Code_IPC: SOIC127P600-8; ComponentLink1Description: Manufacturer Link; ComponentLink1URL: http://www.st.com/
footprint SO8_N (SOIC, 8-Leads, Body 4.9x3.9mm, Pitch 1.27mm, IPC Medium Density)
footprint SO8_L (SOIC, 8-Leads, Body 4.9x3.9mm, Pitch 1.27mm, IPC High Density)
footprint SO8_M (SOIC, 8-Leads, Body 4.9x3.9mm, Pitch 1.27mm, IPC Low Density)
3D model SO8 (8-Pin Small Outline Integrated Circuit 1.27 mm Pitch)
simulation model LF355 (SUBCKT)
pins: 1 OS NULL, 2 IN- (in), 3 IN+ (in), 4 V- (power), 5 OS NULL, 6 OUT (out), 7 V+ (power), 8 NC

## LF355N
designator U?
Wide-Bandwidth Single J-FET Operational Amplifier; Published: 24-Aug-2001; LatestRevisionDate: 06-Jun-2005; LatestRevisionNote: Stylized 3D Model Added.; DatasheetVersion: Jul-1998; PackageReference: DIP8; Publisher: Altium Limited; PackageDescription: DIP; 8 Leads; Row Spacing 7.62 mm; Pitch 2.54 mm; Code_JEDEC: MO-001-AN; ComponentLink1Description: Manufacturer Link; ComponentLink1URL: http://www.st.com/
footprint DIP8 (DIP; 8 Leads; Row Spacing 7.62 mm; Pitch 2.54 mm)
3D model DIP8 (DIP; 8 Leads; Row Spacing 7.62 mm; Pitch 2.54 mm)
simulation model LF355 (SUBCKT)
pins: 1 OS NULL, 2 IN- (in), 3 IN+ (in), 4 V- (power), 5 OS NULL, 6 OUT (out), 7 V+ (power), 8 NC

## LF356D
designator U?
Wide-Bandwidth Single J-FET Operational Amplifier; Published: 24-Aug-2001; LatestRevisionDate: 13-Apr-2006; LatestRevisionNote: IPC-7351 Footprint Added.; DatasheetVersion: Jul-1998; PackageVersion: Dec-2002; PackageReference: SO8; Publisher: Altium Limited; PackageDescription: 8-Pin Small Outline Integrated Circuit 1.27 mm Pitch; Code_JEDEC: MS-012-AA; Code_IPC: SOIC127P600-8; ComponentLink1Description: Manufacturer Link; ComponentLink1URL: http://www.st.com/
footprint SO8_N (SOIC, 8-Leads, Body 4.9x3.9mm, Pitch 1.27mm, IPC Medium Density)
footprint SO8_L (SOIC, 8-Leads, Body 4.9x3.9mm, Pitch 1.27mm, IPC High Density)
footprint SO8_M (SOIC, 8-Leads, Body 4.9x3.9mm, Pitch 1.27mm, IPC Low Density)
3D model SO8 (8-Pin Small Outline Integrated Circuit 1.27 mm Pitch)
simulation model LF356 (SUBCKT)
pins: 1 OS NULL, 2 IN- (in), 3 IN+ (in), 4 V- (power), 5 OS NULL, 6 OUT (out), 7 V+ (power), 8 NC

## LF356N
designator U?
Wide-Bandwidth Single J-FET Operational Amplifier; Published: 24-Aug-2001; LatestRevisionDate: 06-Jun-2005; LatestRevisionNote: Stylized 3D Model Added.; DatasheetVersion: Jul-1998; PackageReference: DIP8; Publisher: Altium Limited; PackageDescription: DIP; 8 Leads; Row Spacing 7.62 mm; Pitch 2.54 mm; Code_JEDEC: MO-001-AN; ComponentLink1Description: Manufacturer Link; ComponentLink1URL: http://www.st.com/
footprint DIP8 (DIP; 8 Leads; Row Spacing 7.62 mm; Pitch 2.54 mm)
3D model DIP8 (DIP; 8 Leads; Row Spacing 7.62 mm; Pitch 2.54 mm)
simulation model LF356 (SUBCKT)
pins: 1 OS NULL, 2 IN- (in), 3 IN+ (in), 4 V- (power), 5 OS NULL, 6 OUT (out), 7 V+ (power), 8 NC

## LF357D
designator U?
Wide-Bandwidth Single J-FET Operational Amplifier; Published: 24-Aug-2001; LatestRevisionDate: 13-Apr-2006; LatestRevisionNote: IPC-7351 Footprint Added.; DatasheetVersion: Jul-1998; PackageVersion: Dec-2002; PackageReference: SO8; Publisher: Altium Limited; PackageDescription: 8-Pin Small Outline Integrated Circuit 1.27 mm Pitch; Code_JEDEC: MS-012-AA; Code_IPC: SOIC127P600-8; ComponentLink1Description: Manufacturer Link; ComponentLink1URL: http://www.st.com/
footprint SO8_N (SOIC, 8-Leads, Body 4.9x3.9mm, Pitch 1.27mm, IPC Medium Density)
footprint SO8_L (SOIC, 8-Leads, Body 4.9x3.9mm, Pitch 1.27mm, IPC High Density)
footprint SO8_M (SOIC, 8-Leads, Body 4.9x3.9mm, Pitch 1.27mm, IPC Low Density)
3D model SO8 (8-Pin Small Outline Integrated Circuit 1.27 mm Pitch)
pins: 1 OS NULL, 2 IN- (in), 3 IN+ (in), 4 V- (power), 5 OS NULL, 6 OUT (out), 7 V+ (power), 8 NC

## LF357N
designator U?
Wide-Bandwidth Single J-FET Operational Amplifier; Published: 24-Aug-2001; LatestRevisionDate: 06-Jun-2005; LatestRevisionNote: Stylized 3D Model Added.; DatasheetVersion: Jul-1998; PackageReference: DIP8; Publisher: Altium Limited; PackageDescription: DIP; 8 Leads; Row Spacing 7.62 mm; Pitch 2.54 mm; Code_JEDEC: MO-001-AN; ComponentLink1Description: Manufacturer Link; ComponentLink1URL: http://www.st.com/
footprint DIP8 (DIP; 8 Leads; Row Spacing 7.62 mm; Pitch 2.54 mm)
3D model DIP8 (DIP; 8 Leads; Row Spacing 7.62 mm; Pitch 2.54 mm)
pins: 1 OS NULL, 2 IN- (in), 3 IN+ (in), 4 V- (power), 5 OS NULL, 6 OUT (out), 7 V+ (power), 8 NC

## LM101AD
designator U?
Single Operational Amplifier; Published: 24-Aug-2001; LatestRevisionDate: 13-Apr-2006; LatestRevisionNote: IPC-7351 Footprint Added.; DatasheetVersion: Oct-1995; PackageVersion: Dec-2002; PackageReference: SO8; Publisher: Altium Limited; PackageDescription: 8-Pin Small Outline Integrated Circuit 1.27 mm Pitch; Code_JEDEC: MS-012-AA; Code_IPC: SOIC127P600-8; ComponentLink1Description: Manufacturer Link; ComponentLink1URL: http://www.st.com/
footprint SO8_N (SOIC, 8-Leads, Body 4.9x3.9mm, Pitch 1.27mm, IPC Medium Density)
footprint SO8_L (SOIC, 8-Leads, Body 4.9x3.9mm, Pitch 1.27mm, IPC High Density)
footprint SO8_M (SOIC, 8-Leads, Body 4.9x3.9mm, Pitch 1.27mm, IPC Low Density)
3D model SO8 (8-Pin Small Outline Integrated Circuit 1.27 mm Pitch)
simulation model LM101A (SUBCKT)
pins: 1 BAL/CMPEN1, 2 IN- (in), 3 IN+ (in), 4 V- (power), 5 BAL, 6 OUT (out), 7 V+ (power), 8 CMPEN2

## LM101AN
designator U?
Single Operational Amplifier; Published: 24-Aug-2001; LatestRevisionDate: 06-Jun-2005; LatestRevisionNote: Stylized 3D Model Added.; DatasheetVersion: Oct-1995; PackageReference: DIP8; Publisher: Altium Limited; PackageDescription: DIP; 8 Leads; Row Spacing 7.62 mm; Pitch 2.54 mm; Code_JEDEC: MO-001-AN; ComponentLink1Description: Manufacturer Link; ComponentLink1URL: http://www.st.com/
footprint DIP8 (DIP; 8 Leads; Row Spacing 7.62 mm; Pitch 2.54 mm)
3D model DIP8 (DIP; 8 Leads; Row Spacing 7.62 mm; Pitch 2.54 mm)
simulation model LM101A (SUBCKT)
pins: 1 BAL/CMPEN1, 2 IN- (in), 3 IN+ (in), 4 V- (power), 5 BAL, 6 OUT (out), 7 V+ (power), 8 CMPEN2

## LM124AD
designator U?
Low-Power Quad Operational Amplifier; Published: 24-Aug-2001; LatestRevisionDate: 13-Apr-2006; LatestRevisionNote: IPC-7351 Footprint Added.; DatasheetVersion: Nov-1997; PackageVersion: Sep-1998; PackageReference: SO14; Publisher: Altium Limited; PackageDescription: 14-Pin Small Outline Integrated Circuit 1.27 mm Pitch; Code_IPC: SOIC127P600-14; ComponentLink1Description: Manufacturer Link; ComponentLink1URL: http://www.st.com/
footprint SO14_N (SOIC, 14-Leads, Body 8.7x3.9mm, Pitch 1.27mm, IPC Medium Density)
footprint SO14_L (SOIC, 14-Leads, Body 8.7x3.9mm, Pitch 1.27mm, IPC High Density)
footprint SO14_M (SOIC, 14-Leads, Body 8.7x3.9mm, Pitch 1.27mm, IPC Low Density)
3D model SO14 (14-Pin Small Outline Integrated Circuit 1.27 mm Pitch)
pins on every part: 4 V+ (power), 11 V- (power)
part A pins: 1 OUT (out), 2 IN- (in), 3 IN+ (in)
part B pins: 5 IN+ (in), 6 IN- (in), 7 OUT (out)
part C pins: 8 OUT (out), 9 IN- (in), 10 IN+ (in)
part D pins: 12 IN+ (in), 13 IN- (in), 14 OUT (out)
part A text: A
part B text: B
part C text: C
part D text: D

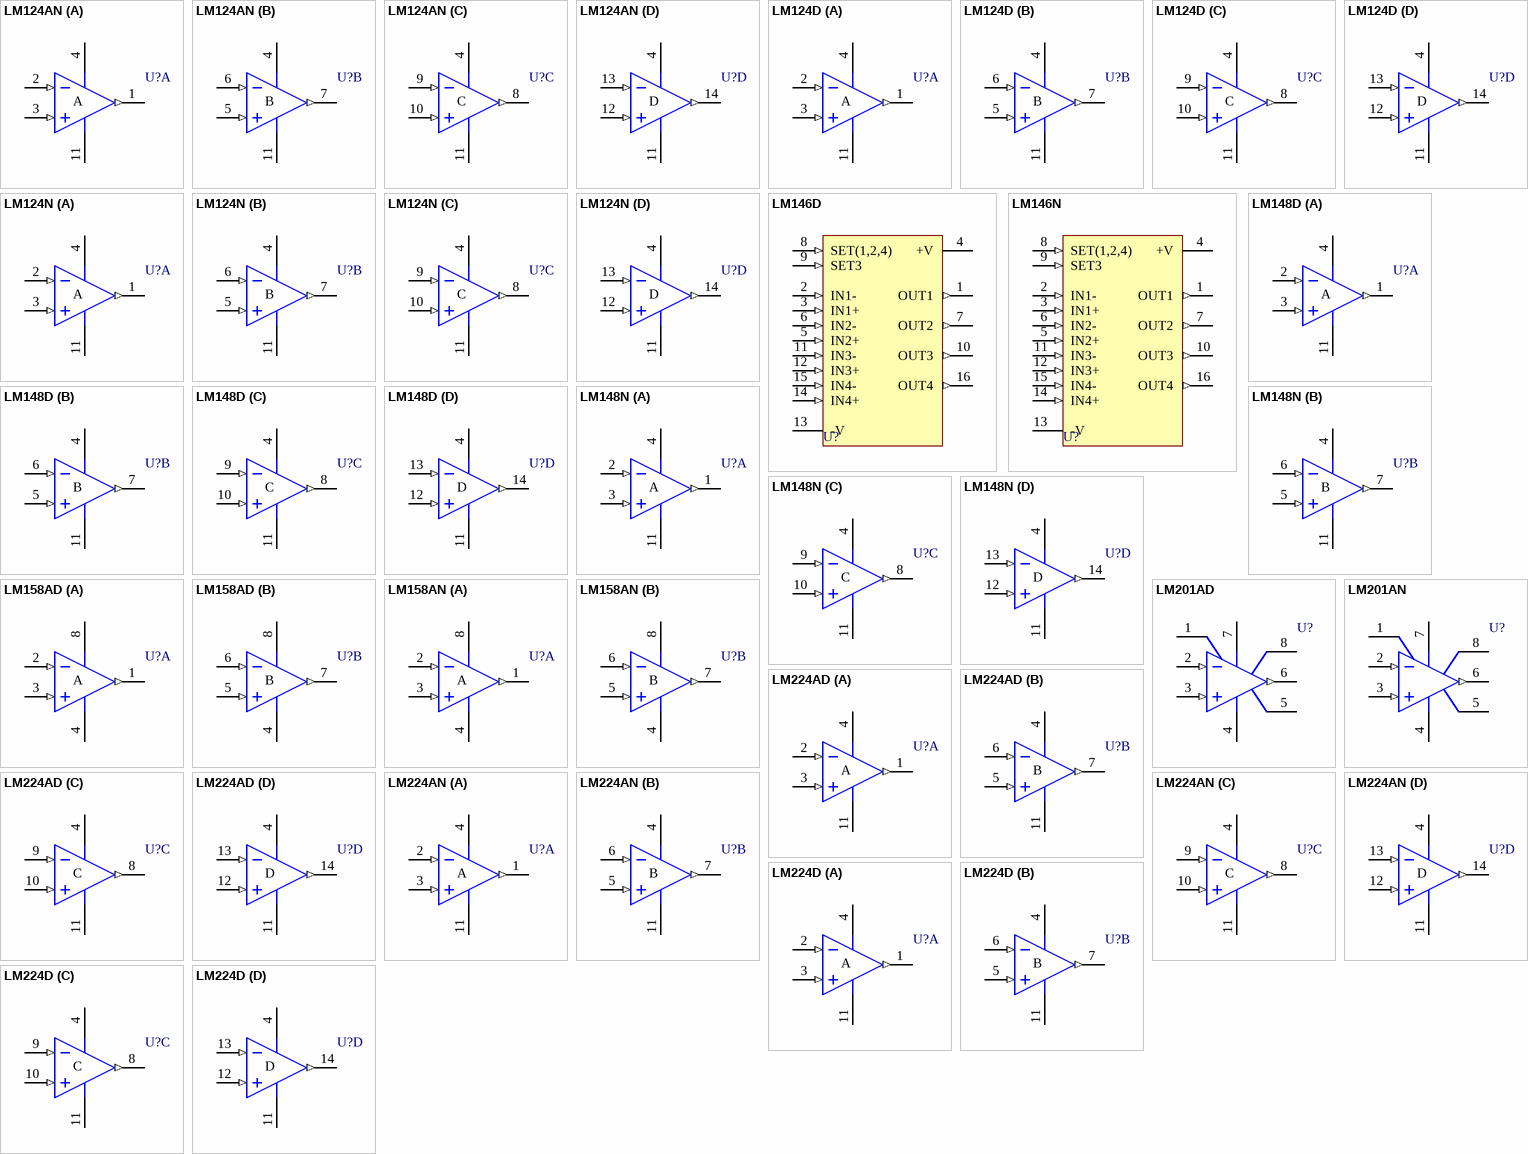
[diagram p2: symbols LM124AN to LM224D]

## LM124AN
designator U?
Low-Power Quad Operational Amplifier; Published: 24-Aug-2001; LatestRevisionDate: 06-Jun-2005; LatestRevisionNote: Stylized 3D Model Added.; DatasheetVersion: Nov-1997; PackageVersion: Jan-1997; PackageReference: DIP14; Publisher: Altium Limited; PackageDescription: DIP; 14 Leads; Row Spacing 7.62 mm; Pitch 2.54 mm; ComponentLink1Description: Manufacturer Link; ComponentLink1URL: http://www.st.com/
footprint DIP14 (DIP; 14 Leads; Row Spacing 7.62 mm; Pitch 2.54 mm)
3D model DIP14 (DIP; 14 Leads; Row Spacing 7.62 mm; Pitch 2.54 mm)
pins on every part: 4 V+ (power), 11 V- (power)
part A pins: 1 OUT (out), 2 IN- (in), 3 IN+ (in)
part B pins: 5 IN+ (in), 6 IN- (in), 7 OUT (out)
part C pins: 8 OUT (out), 9 IN- (in), 10 IN+ (in)
part D pins: 12 IN+ (in), 13 IN- (in), 14 OUT (out)
part A text: A
part B text: B
part C text: C
part D text: D

## LM124D
designator U?
Low-Power Quad Operational Amplifier; Published: 24-Aug-2001; LatestRevisionDate: 13-Apr-2006; LatestRevisionNote: IPC-7351 Footprint Added.; DatasheetVersion: Jun-1999; PackageVersion: Sep-1998; PackageReference: SO14; Publisher: Altium Limited; PackageDescription: 14-Pin Small Outline Integrated Circuit 1.27 mm Pitch; Code_IPC: SOIC127P600-14; ComponentLink1Description: Manufacturer Link; ComponentLink1URL: http://www.st.com/; ComponentLink2Description: Datasheet; ComponentLink2URL: http://www.st.com/stonline/products/literature/ds/2156/lm324.pdf
footprint SO14_N (SOIC, 14-Leads, Body 8.7x3.9mm, Pitch 1.27mm, IPC Medium Density)
footprint SO14_L (SOIC, 14-Leads, Body 8.7x3.9mm, Pitch 1.27mm, IPC High Density)
footprint SO14_M (SOIC, 14-Leads, Body 8.7x3.9mm, Pitch 1.27mm, IPC Low Density)
3D model SO14 (14-Pin Small Outline Integrated Circuit 1.27 mm Pitch)
pins on every part: 4 V+ (power), 11 V- (power)
part A pins: 1 OUT (out), 2 IN- (in), 3 IN+ (in)
part B pins: 5 IN+ (in), 6 IN- (in), 7 OUT (out)
part C pins: 8 OUT (out), 9 IN- (in), 10 IN+ (in)
part D pins: 12 IN+ (in), 13 IN- (in), 14 OUT (out)
part A text: A
part B text: B
part C text: C
part D text: D

## LM124N
designator U?
Low-Power Quad Operational Amplifier; Published: 24-Aug-2001; LatestRevisionDate: 06-Jun-2005; LatestRevisionNote: Stylized 3D Model Added.; DatasheetVersion: Jun-1999; PackageVersion: Jan-1997; PackageReference: DIP14; Publisher: Altium Limited; PackageDescription: DIP; 14 Leads; Row Spacing 7.62 mm; Pitch 2.54 mm; ComponentLink1Description: Manufacturer Link; ComponentLink1URL: http://www.st.com/; ComponentLink2Description: Datasheet; ComponentLink2URL: http://www.st.com/stonline/products/literature/ds/2156/lm324.pdf
footprint DIP14 (DIP; 14 Leads; Row Spacing 7.62 mm; Pitch 2.54 mm)
3D model DIP14 (DIP; 14 Leads; Row Spacing 7.62 mm; Pitch 2.54 mm)
pins on every part: 4 V+ (power), 11 V- (power)
part A pins: 1 OUT (out), 2 IN- (in), 3 IN+ (in)
part B pins: 5 IN+ (in), 6 IN- (in), 7 OUT (out)
part C pins: 8 OUT (out), 9 IN- (in), 10 IN+ (in)
part D pins: 12 IN+ (in), 13 IN- (in), 14 OUT (out)
part A text: A
part B text: B
part C text: C
part D text: D

## LM146D
designator U?
Programmable Quad Bipolar Operational Amplifier; Published: 24-Aug-2001; LatestRevisionDate: 13-Apr-2006; LatestRevisionNote: IPC-7351 Footprint Added.; DatasheetVersion: Nov-1997; PackageVersion: May-1998; PackageReference: SO16; Publisher: Altium Limited; PackageDescription: 16-Pin Small Outline Integrated Circuit 1.27 mm Pitch; Code_IPC: SOIC127P600-16; ComponentLink1Description: Manufacturer Link; ComponentLink1URL: http://www.st.com/; ComponentLink2Description: Datasheet; ComponentLink2URL: http://www.st.com/stonline/products/literature/ds/2160/lm346.pdf
footprint SO16_N (SOIC, 16-Leads, Body 9.9x3.9mm, Pitch 1.27mm, IPC Medium Density)
footprint SO16_L (SOIC, 16-Leads, Body 9.9x3.9mm, Pitch 1.27mm, IPC High Density)
footprint SO16_M (SOIC, 16-Leads, Body 9.9x3.9mm, Pitch 1.27mm, IPC Low Density)
3D model SO16 (16-Pin Small Outline Integrated Circuit 1.27 mm Pitch)
pins: 1 OUT1 (out), 2 IN1- (in), 3 IN1+ (in), 4 +V (power), 5 IN2+ (in), 6 IN2- (in), 7 OUT2 (out), 8 SET(1,2,4) (in), 9 SET3 (in), 10 OUT3 (out), 11 IN3- (in), 12 IN3+ (in), 13 -V (power), 14 IN4+ (in), 15 IN4- (in), 16 OUT4 (out)

## LM146N
designator U?
Programmable Quad Bipolar Operational Amplifier; Published: 24-Aug-2001; LatestRevisionDate: 06-Jun-2005; LatestRevisionNote: Stylized 3D Model Added.; DatasheetVersion: Nov-1997; PackageVersion: Apr-1996; PackageReference: DIP16; Publisher: Altium Limited; PackageDescription: DIP; 16 Leads; Row Spacing 7.62 mm; Pitch 2.54 mm; ComponentLink1Description: Manufacturer Link; ComponentLink1URL: http://www.st.com/; ComponentLink2Description: Datasheet; ComponentLink2URL: http://www.st.com/stonline/products/literature/ds/2160/lm346.pdf
footprint DIP16 (DIP; 16 Leads; Row Spacing 7.62 mm; Pitch 2.54 mm)
3D model DIP16 (DIP; 16 Leads; Row Spacing 7.62 mm; Pitch 2.54 mm)
pins: 1 OUT1 (out), 2 IN1- (in), 3 IN1+ (in), 4 +V (power), 5 IN2+ (in), 6 IN2- (in), 7 OUT2 (out), 8 SET(1,2,4) (in), 9 SET3 (in), 10 OUT3 (out), 11 IN3- (in), 12 IN3+ (in), 13 -V (power), 14 IN4+ (in), 15 IN4- (in), 16 OUT4 (out)

## LM148D
designator U?
Four UA741 Quad Bipolar Operational Amplifier; Published: 24-Aug-2001; LatestRevisionDate: 13-Apr-2006; LatestRevisionNote: IPC-7351 Footprint Added.; DatasheetVersion: Nov-1997; PackageVersion: Sep-1998; PackageReference: SO14; Publisher: Altium Limited; PackageDescription: 14-Pin Small Outline Integrated Circuit 1.27 mm Pitch; Code_IPC: SOIC127P600-14; ComponentLink1Description: Manufacturer Link; ComponentLink1URL: http://www.st.com/; ComponentLink2Description: Datasheet; ComponentLink2URL: http://www.st.com/stonline/products/literature/ds/2161/lm348.pdf
footprint SO14_N (SOIC, 14-Leads, Body 8.7x3.9mm, Pitch 1.27mm, IPC Medium Density)
footprint SO14_L (SOIC, 14-Leads, Body 8.7x3.9mm, Pitch 1.27mm, IPC High Density)
footprint SO14_M (SOIC, 14-Leads, Body 8.7x3.9mm, Pitch 1.27mm, IPC Low Density)
3D model SO14 (14-Pin Small Outline Integrated Circuit 1.27 mm Pitch)
pins on every part: 4 V+ (power), 11 V- (power)
part A pins: 1 OUT (out), 2 IN- (in), 3 IN+ (in)
part B pins: 5 IN+ (in), 6 IN- (in), 7 OUT (out)
part C pins: 8 OUT (out), 9 IN- (in), 10 IN+ (in)
part D pins: 12 IN+ (in), 13 IN- (in), 14 OUT (out)
part A text: A
part B text: B
part C text: C
part D text: D

## LM148N
designator U?
Four UA741 Quad Bipolar Operational Amplifier; Published: 24-Aug-2001; LatestRevisionDate: 06-Jun-2005; LatestRevisionNote: Stylized 3D Model Added.; DatasheetVersion: Nov-1997; PackageVersion: Jan-1997; PackageReference: DIP14; Publisher: Altium Limited; PackageDescription: DIP; 14 Leads; Row Spacing 7.62 mm; Pitch 2.54 mm; ComponentLink1Description: Manufacturer Link; ComponentLink1URL: http://www.st.com/; ComponentLink2Description: Datasheet; ComponentLink2URL: http://www.st.com/stonline/products/literature/ds/2161/lm348.pdf
footprint DIP14 (DIP; 14 Leads; Row Spacing 7.62 mm; Pitch 2.54 mm)
3D model DIP14 (DIP; 14 Leads; Row Spacing 7.62 mm; Pitch 2.54 mm)
pins on every part: 4 V+ (power), 11 V- (power)
part A pins: 1 OUT (out), 2 IN- (in), 3 IN+ (in)
part B pins: 5 IN+ (in), 6 IN- (in), 7 OUT (out)
part C pins: 8 OUT (out), 9 IN- (in), 10 IN+ (in)
part D pins: 12 IN+ (in), 13 IN- (in), 14 OUT (out)
part A text: A
part B text: B
part C text: C
part D text: D

## LM158AD
designator U?
Low-Power Dual Operational Amplifier; Published: 24-Aug-2001; LatestRevisionDate: 13-Apr-2006; LatestRevisionNote: IPC-7351 Footprint Added.; DatasheetVersion: Jun-1998; PackageVersion: Dec-2002; PackageReference: SO8; Publisher: Altium Limited; PackageDescription: 8-Pin Small Outline Integrated Circuit 1.27 mm Pitch; Code_JEDEC: MS-012-AA; Code_IPC: SOIC127P600-8; ComponentLink1Description: Manufacturer Link; ComponentLink1URL: http://www.st.com/; ComponentLink2Description: Datasheet; ComponentLink2URL: http://www.st.com/stonline/products/literature/ds/2163/lm358.pdf
footprint SO8_N (SOIC, 8-Leads, Body 4.9x3.9mm, Pitch 1.27mm, IPC Medium Density)
footprint SO8_L (SOIC, 8-Leads, Body 4.9x3.9mm, Pitch 1.27mm, IPC High Density)
footprint SO8_M (SOIC, 8-Leads, Body 4.9x3.9mm, Pitch 1.27mm, IPC Low Density)
3D model SO8 (8-Pin Small Outline Integrated Circuit 1.27 mm Pitch)
pins on every part: 4 V- (power), 8 V+ (power)
part A pins: 1 OUT (out), 2 IN- (in), 3 IN+ (in)
part B pins: 5 IN+ (in), 6 IN- (in), 7 OUT (out)
part A text: A
part B text: B